# Altium footprint library MAX30102.PcbLib: 1 footprints
Each footprint in its own frame and in the unit in brackets; x right, y up, seen from the top. Pads: shape width x height; smd on the part's side, far side on the other; paste and mask are expansions set on the pad; w line width, h text height; cw(c..) or ccw(c..) is an arc to the next point about the centre after c.
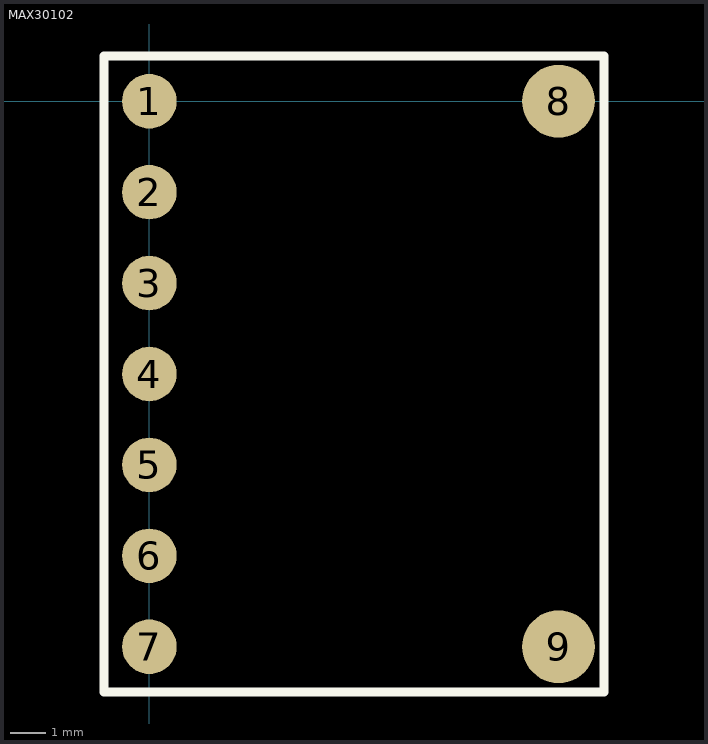
[diagram p0: the footprint, top view; thin cyan lines are the x and y axes]

## MAX30102 [mil]
pads (9):
  round 60 smd: 1(0,0) 2(0,-100) 3(0,-200) 4(0,-300) 5(0,-400) 6(0,-500) 7(0,-600)
  round 80 smd: 8(450,0) 9(450,-600)
Top Overlay:
  lines w10: -50,-650 -50,-600 -50,0 -50,50 0,50 500,50 500,-650 0,-650 -50,-650